# Altium footprint library Treetap7c.PcbLib: 33 footprints (part 1 of 3)
Each footprint in its own frame and in the unit in brackets; x right, y up, seen from the top. Pads: shape width x height; smd on the part's side, far side on the other; paste and mask are expansions set on the pad; w line width, h text height; cw(c..) or ccw(c..) is an arc to the next point about the centre after c.
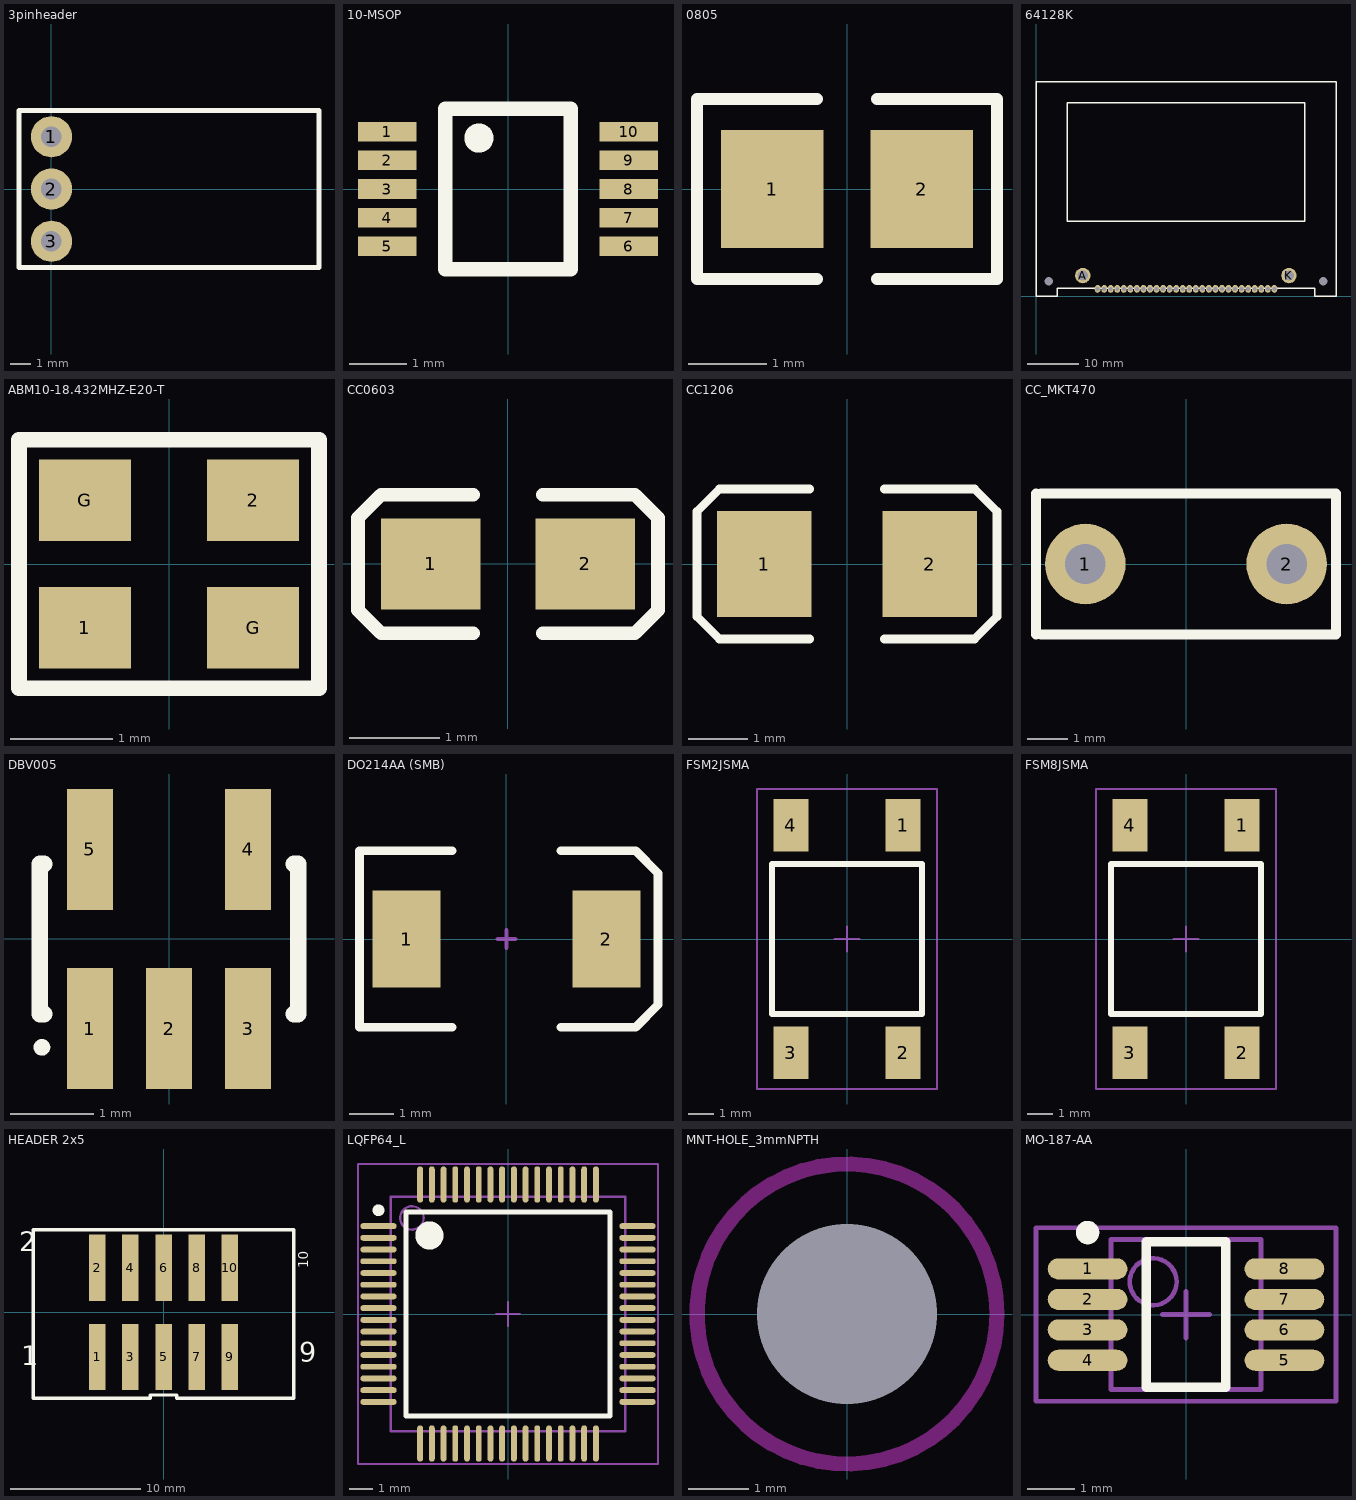
[diagram p0: the footprints below, top view; thin cyan lines are the x and y axes]

## 3pinheader [mm] "3 pin 2.54mm pitch right angle header"
height 5.8
pads (3):
  round 2 hole 1: 1(0,2.54) 2(0,0) 3(0,-2.54)
Top Overlay:
  lines w0.254: -1.575,-3.81 -1.575,3.81 13,3.81 13,-3.81 -1.575,-3.81

## 10-MSOP [mil] "10-pin micro small outline package; 0.5mm pitch"
height 33.86
pads (10):
  rect 40x13.5 smd paste-3 mask+2: 1(-82.99,39.37) 2(-82.99,19.68) 3(-82.99,0) 4(-82.99,-19.69) 5(-82.99,-39.37) 6(82.99,-39.37) 7(82.99,-19.69) 8(82.99,0) 9(82.99,19.68) 10(82.99,39.37)
Top Overlay:
  circle w10: c-20,35 r5
  lines w10: 43.01,-55 -43.01,-55 -43.01,55 43.01,55 43.03,-55

## 0805 [mm] "0805 package; Body 2.0 x 1.3 mm (LxW typ)"
height 2.54
pads (2):
  rect 1.3x1.5 smd: 1(-0.95,0) 2(0.95,0)
Top Overlay:
  lines w0.15: -0.381,-1.143 -1.905,-1.143 -1.905,1.143 -0.381,1.143 ; 0.381,-1.143 1.905,-1.143 1.905,1.143 0.381,1.143

## 64128K [mm] "Displaytech 64x128 pixel model K LCD module with backlight"
height 5.7
pads (32):
  oval 1.118x1.5 hole 0.762: 1(46.245,1.47) 2(44.975,1.47) 3(43.705,1.47) 4(42.435,1.47) 5(41.165,1.47) 6(39.895,1.47) 7(38.625,1.47) 8(37.355,1.47) 9(36.085,1.47) 10(34.815,1.47) 11(33.545,1.47) 12(32.275,1.47) 13(31.005,1.47) 14(29.735,1.47) 15(28.465,1.47) 16(27.195,1.47) 17(25.925,1.47) 18(24.655,1.47) 19(23.385,1.47) 20(22.115,1.47) 21(20.845,1.47) 22(19.575,1.47) 23(18.305,1.47) 24(17.035,1.47) 25(15.765,1.47) 26(14.495,1.47) 27(13.225,1.47) 28(11.955,1.47)
  round 3 hole 2: A(9.093,4.064) K(49.073,4.064)
  round 0 hole 1.65 unplated: MNT1(2.5,3) MNT2(55.7,3)
Top Overlay:
  lines w0.254: 0,0 0,41.7 58.2,41.7 58.2,0 54.1,0 54.1,1.6 4.1,1.6 4.1,0 0,0 ; 6.07,14.59 6.07,37.6 52.12,37.6 52.12,14.59 6.07,14.59

## ABM10-18.432MHZ-E20-T [mm] "Surface mount crystal"
height 0.5
pads (4):
  rect 0.9x0.8 smd: 1(-0.825,-0.625) 2(0.825,0.625) G(-0.825,0.625) G(0.825,-0.625)
Top Overlay:
  lines w0.152: -1.473,-1.219 -1.473,1.219 1.473,1.219 1.473,-1.219 -1.473,-1.219

## CC0603 [mm] "Chip Capacitor; Body 1.6 x 0.8 mm (LxW typ)"
height 1.35
pads (2):
  rect 1.1x1 smd: 1(-0.85,0) 2(0.85,0)
Top Overlay:
  lines w0.15: -0.381,-0.762 -1.397,-0.762 -1.651,-0.508 -1.651,0.508 -1.397,0.762 -0.381,0.762 ; 0.381,-0.762 1.397,-0.762 1.651,-0.508 1.651,0.508 1.397,0.762 0.381,0.762
3D body: height 1.35, standoff 0, extent -1.502,-0.602 1.502,0.602

## CC1206 [mm] "Chip Capaciter; Body 3.2 x 1.6 mm (LxW typ)"
height 2.54
pads (2):
  rect 1.6x1.8 smd: 1(-1.4,0) 2(1.4,0)
Top Overlay:
  lines w0.15: -0.635,-1.27 -2.159,-1.27 -2.54,-0.889 -2.54,0.889 -2.159,1.27 -0.635,1.27 ; 0.635,-1.27 2.159,-1.27 2.54,-0.889 2.54,0.889 2.159,1.27 0.635,1.27
3D body: height 1.4, standoff 0, extent -1.605,-0.805 1.605,0.805

## CC_MKT470 [mm] "Thru-hole metalysed polyester film capacitor"
height 8
pads (2):
  round 2 hole 1: 1(-2.5,0) 2(2.5,0)
Top Overlay:
  lines w0.254: -3.725,-1.75 -3.725,1.75 ; -3.6,-1.75 3.725,-1.75 3.725,1.75 -3.6,1.75

## DBV005 [mm] "SOT-23/SC-74A; 5 Leads; Body 3 x 3 mm, inc. leads (LxW max)"
height 1.45
pads (5):
  rect 0.55x1.45 smd: 1(-0.95,-1.075) 2(0,-1.075) 3(0.95,-1.075) 4(0.95,1.075) 5(-0.95,1.075)
Top Overlay:
  circle w0.1: c-1.525,-1.3 r0.05
  lines w0.2: -1.5,-0.9 -1.55,-0.9 -1.55,0.9 -1.5,0.9 ; 1.5,-0.9 1.55,-0.9 1.55,0.9 1.5,0.9

## DO214AA (SMB) [mm] "DO-214-AA/SMB; 2 C-Bend Leads;"
height 2.438
pads (2):
  rect 1.524x2.184 smd: 1(-2.24,0) 2(2.24,0)
Top Overlay:
  lines w0.2: -1.219,-1.981 -3.3,-1.981 -3.3,1.981 -1.219,1.981 ; 1.219,1.981 2.9,1.981 3.4,1.473 3.4,-1.473 2.9,-1.981 1.223,-1.981
Mechanical 1:
  lines w0.1: -0.2,0 0.2,0 ; 0,-0.2 0,0.2
3D body: height 2.45, standoff 0.01, extent -2.769,-1.93 2.821,2.01

## FSM2JSMA [mm] "DPST SMD Switch Footprint"
height 9.5
pads (4):
  rect 1.4x2.1 smd paste-2.286: 1(2.248,4.55) 2(2.248,-4.55) 3(-2.248,-4.55) 4(-2.248,4.55)
Top Overlay:
  lines w0.254: -3,-3 -3,3 3,3 3,-3 -3,-3
Mechanical 13:
  lines w0.1: -3,-3 -3,3 3,3 3,-3 -3,-3
Mechanical 15:
  lines w0.1: -0.5,0 0.5,0 ; 0,-0.5 0,0.5 ; -3.6,-6 -3.6,6 3.6,6 3.6,-6 -3.6,-6
3D body: height 4.39, standoff 0, extent -2.972,-5.029 3.028,4.971

## FSM8JSMA [mm] "DPST SMD Switch Footprint"
height 9.5
pads (4):
  rect 1.4x2.1 smd: 1(2.248,4.55) 2(2.248,-4.55) 3(-2.248,-4.55) 4(-2.248,4.55)
Top Overlay:
  lines w0.254: -3,-3 -3,3 3,3 3,-3 -3,-3
Mechanical 13:
  lines w0.1: -3,-3 -3,3 3,3 3,-3 -3,-3
Mechanical 15:
  lines w0.1: -0.5,0 0.5,0 ; 0,-0.5 0,0.5 ; -3.6,-6 -3.6,6 3.6,6 3.6,-6 -3.6,-6
3D body: height 9.57, standoff -0.03, extent -3,-5.047 3,4.953

## HEADER 2x5 [mil] "SMD 2x5 Header boxed"
height 390.16
pads (10):
  rect 50x200 smd paste-200: 1(-200,-135) 2(-200,135) 3(-100,-135) 4(-100,135) 5(0,-135) 6(0,135) 7(100,-135) 8(100,135) 9(200,-135) 10(200,135)
Top Overlay:
  lines w10: -394,-260 -40,-260 -40,-250 40,-250 40,-260 394,-260 394,250 -394,250 -394,-260
  text "1" at -430,-160 h60
  text "2" at -437.01,185.04 h60
  text "9" at 410,-150 h60
  text "10" at 437.01,133.86 h30
3D body: height 400, standoff 0, extent -393,-220 395,220

## LQFP64_L [mm] "Thin QFP, 64-Leads, Body 10x10mm, Pitch 0.5mm, IPC High Density"
height 1.6
pads (64):
  oval 1.55x0.25 smd: 1(-5.525,3.75) 2(-5.525,3.25) 3(-5.525,2.75) 4(-5.525,2.25) 5(-5.525,1.75) 6(-5.525,1.25) 7(-5.525,0.75) 8(-5.525,0.25) 9(-5.525,-0.25) 10(-5.525,-0.75) 11(-5.525,-1.25) 12(-5.525,-1.75) 13(-5.525,-2.25) 14(-5.525,-2.75) 15(-5.525,-3.25) 16(-5.525,-3.75) 33(5.525,-3.75) 34(5.525,-3.25) 35(5.525,-2.75) 36(5.525,-2.25) 37(5.525,-1.75) 38(5.525,-1.25) 39(5.525,-0.75) 40(5.525,-0.25) 41(5.525,0.25) 42(5.525,0.75) 43(5.525,1.25) 44(5.525,1.75) 45(5.525,2.25) 46(5.525,2.75) 47(5.525,3.25) 48(5.525,3.75)
  oval 0.25x1.55 smd: 17(-3.75,-5.525) 18(-3.25,-5.525) 19(-2.75,-5.525) 20(-2.25,-5.525) 21(-1.75,-5.525) 22(-1.25,-5.525) 23(-0.75,-5.525) 24(-0.25,-5.525) 25(0.25,-5.525) 26(0.75,-5.525) 27(1.25,-5.525) 28(1.75,-5.525) 29(2.25,-5.525) 30(2.75,-5.525) 31(3.25,-5.525) 32(3.75,-5.525) 49(3.75,5.525) 50(3.25,5.525) 51(2.75,5.525) 52(2.25,5.525) 53(1.75,5.525) 54(1.25,5.525) 55(0.75,5.525) 56(0.25,5.525) 57(-0.25,5.525) 58(-0.75,5.525) 59(-1.25,5.525) 60(-1.75,5.525) 61(-2.25,5.525) 62(-2.75,5.525) 63(-3.25,5.525) 64(-3.75,5.525)
Top Overlay:
  circle w0.6: c-3.35,3.35 r0.3
  circle w0.25: c-5.525,4.425 r0.125
  lines w0.2: -4.35,-4.35 4.35,-4.35 4.35,4.35 -4.35,4.35 -4.35,-4.35
Mechanical 13:
  circle w0.1: c-4.1,4.1 r0.5
  lines w0.1: -5,-5 5,-5 5,5 -5,5 -5,-5
Mechanical 15:
  lines w0.1: -0.5,0 0.5,0 ; 0,-0.5 0,0.5 ; -6.4,-6.4 6.4,-6.4 6.4,6.4 -6.4,6.4 -6.4,-6.4
3D body: height 1.6, standoff 0, extent -5,-5 5,5

## MNT-HOLE_3mmNPTH [mm] "Mounting Hole 3mm non plated"
pads (1):
  round 0 hole 3 unplated: 1(0,0)
Keep-Out Layer:
  circle w0.254: c0,0 r2.5

## MO-187-AA [mm] "MSOP, 8-Leads, Body 3x3mm, Pitch 0.65mm, JEDEC MO-187-AA"
height 1.1
pads (8):
  oval 1.7x0.45 smd paste-0.076: 1(-2.1,0.975) 2(-2.1,0.325) 3(-2.1,-0.325) 4(-2.1,-0.975) 5(2.1,-0.975) 6(2.1,-0.325) 7(2.1,0.325) 8(2.1,0.975)
Top Overlay:
  circle w0.25: c-2.1,1.75 r0.125
  lines w0.2: -0.85,-1.55 -0.85,1.55 0.85,1.55 0.85,-1.55 -0.85,-1.55
Mechanical 13:
  circle w0.1: c-0.7,0.7 r0.5
  lines w0.1: -1.6,-1.6 -1.6,1.6 1.6,1.6 1.6,-1.6 -1.6,-1.6
Mechanical 15:
  lines w0.1: -0.5,0 0.5,0 ; 0,-0.5 0,0.5 ; -3.2,-1.85 -3.2,1.85 3.2,1.85 3.2,-1.85 -3.2,-1.85
3D body: height 1.1, standoff 0, extent -1.6,-1.6 1.6,1.6